# Altium footprint library alientek_sch_lib.PcbLib: 370 footprints (part 23 of 24)
Each footprint in its own frame and in the unit in brackets; x right, y up, seen from the top. Pads: shape width x height; smd on the part's side, far side on the other; paste and mask are expansions set on the pad; w line width, h text height; cw(c..) or ccw(c..) is an arc to the next point about the centre after c.
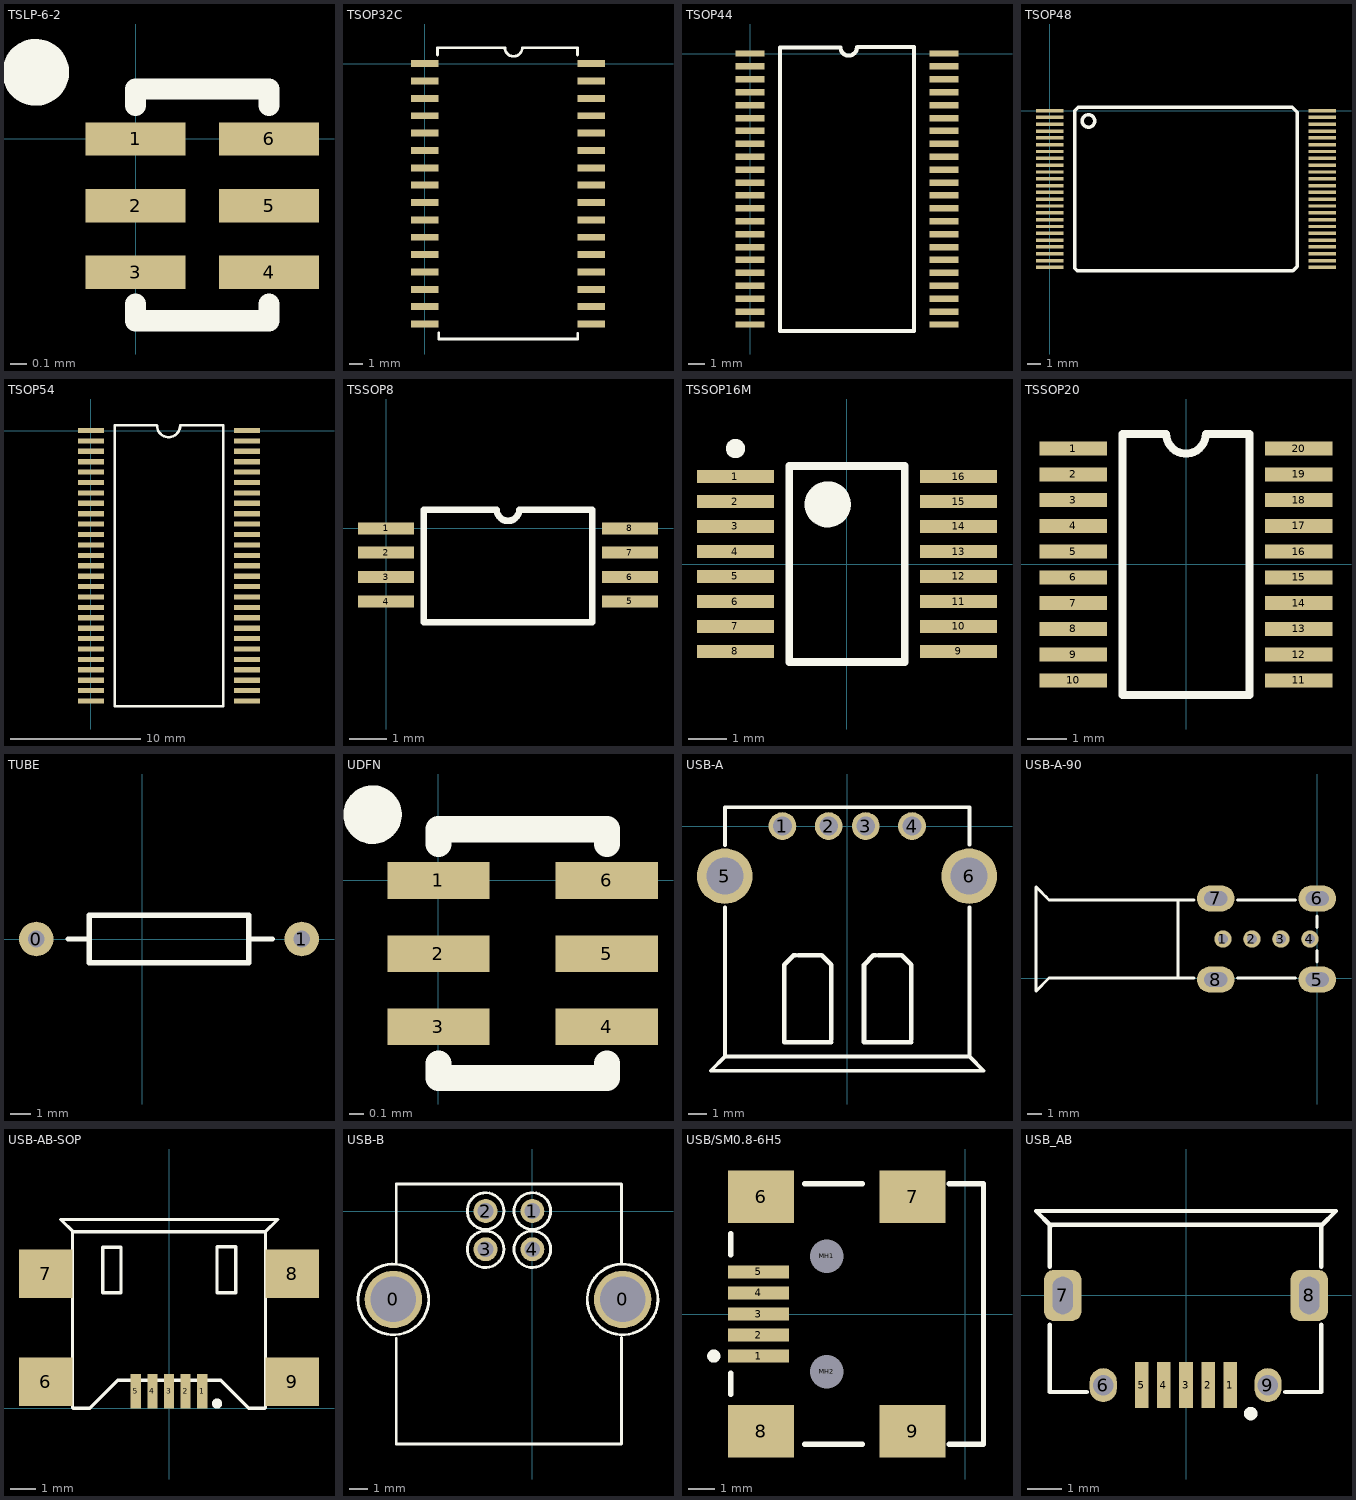
[diagram p22: the footprints below, top view; thin cyan lines are the x and y axes]

## TSLP-6-2 [mm] "1.4x0.7mm (max), Pitch 0.40mm,"
height 0.72
pads (6):
  rect 0.6x0.2 smd: 1(0,0) 2(0,-0.4) 3(0,-0.8) 4(0.8,-0.8) 5(0.8,-0.4) 6(0.8,0)
Top Overlay:
  circle w0.2: c-0.6,0.4 r0.1
  lines w0.127: 0,-0.99 0,-1.09 0.8,-1.09 0.8,-0.99 ; 0,0.2 0,0.3 0.8,0.3 0.8,0.2

## TSOP32C [mil]
height 47.24
pads (32):
  rect 80x20 smd: 1(0,0) 2(0,-50) 3(0,-100) 4(0,-150) 5(0,-200) 6(0,-250) 7(0,-300) 8(0,-350) 9(0,-400) 10(0,-450) 11(0,-500) 12(0,-550) 13(0,-600) 14(0,-650) 15(0,-700) 16(0,-750) 17(480,-750) 18(480,-700) 19(480,-650) 20(480,-600) 21(480,-550) 22(480,-500) 23(480,-450) 24(480,-400) 25(480,-350) 26(480,-300) 27(480,-250) 28(480,-200) 29(480,-150) 30(480,-100) 31(480,-50) 32(480,0)
Top Overlay:
  lines w7.87: 40.87,-776 40.87,-793 440.94,-793 440.94,-777.47 ; 231,46 ccw(c256,46) 281,46
  lines w8: 37,25 37,46 231,46 ; 281,46 440,46 440,25

## TSOP44 [mm]
pads (44):
  rect 1.8x0.4 smd: 1(-0.009,0.001) 2(-0.009,-0.799) 3(-0.009,-1.599) 4(-0.009,-2.399) 5(-0.009,-3.199) 6(-0.009,-3.999) 7(-0.009,-4.799) 8(-0.009,-5.599) 9(-0.009,-6.399) 10(-0.009,-7.199) 11(-0.009,-7.999) 12(-0.009,-8.799) 13(-0.009,-9.599) 14(-0.009,-10.399) 15(-0.009,-11.199) 16(-0.009,-11.999) 17(-0.009,-12.799) 18(-0.009,-13.599) 19(-0.009,-14.399) 20(-0.009,-15.199) 21(-0.009,-15.999) 22(-0.009,-16.799) 23(11.991,-16.799) 24(11.991,-15.999) 25(11.991,-15.199) 26(11.991,-14.399) 27(11.991,-13.599) 28(11.991,-12.799) 29(11.991,-11.999) 30(11.991,-11.199) 31(11.991,-10.399) 32(11.991,-9.599) 33(11.991,-8.799) 34(11.991,-7.999) 35(11.991,-7.199) 36(11.991,-6.399) 37(11.991,-5.599) 38(11.991,-4.799) 39(11.991,-3.999) 40(11.991,-3.199) 41(11.991,-2.399) 42(11.991,-1.599) 43(11.991,-0.799) 44(11.991,0.001)
Top Overlay:
  lines w0.2: 1.826,-17.199 10.156,-17.199
  lines w0.254: 6.604,0.381 cw(c6.096,0.381) 5.588,0.381 1.846,0.381 1.846,-17.18 1.826,-17.199 10.156,-17.199 ; 6.624,0.401 10.156,0.401 10.156,-17.199 ; 10.156,-17.199 10.156,-17.199

## TSOP48 [mm]
height 0.8
pads (48):
  rect 2x0.25 smd: 1(0,0) 2(0,-0.5) 3(0,-1) 4(0,-1.5) 5(0,-2) 6(0,-2.5) 7(0,-3) 8(0,-3.5) 9(0,-4) 10(0,-4.5) 11(0,-5) 12(0,-5.5) 13(0,-6) 14(0,-6.5) 15(0,-7) 16(0,-7.5) 17(0,-8) 18(0,-8.5) 19(0,-9) 20(0,-9.5) 21(0,-10) 22(0,-10.5) 23(0,-11) 24(0,-11.5) 25(20,-11.5) 26(20,-11) 27(20,-10.5) 28(20,-10) 29(20,-9.5) 30(20,-9) 31(20,-8.5) 32(20,-8) 33(20,-7.5) 34(20,-7) 35(20,-6.5) 36(20,-6) 37(20,-5.5) 38(20,-5) 39(20,-4.5) 40(20,-4) 41(20,-3.5) 42(20,-3) 43(20,-2.5) 44(20,-2) 45(20,-1.5) 46(20,-1) 47(20,-0.5) 48(20,0)
Top Overlay:
  circle w0.254: c2.844,-0.762 r0.458
  lines w0.254: 9.271,0.25 10.795,0.25 ; 9.652,0.25 2.085,0.25 1.835,0 1.835,-11.553 2.032,-11.75 17.845,-11.75 18.165,-11.43 18.165,-0.135 17.78,0.25 10.668,0.25

## TSOP54 [mm]
pads (54):
  rect 2x0.4 smd: 1(0,0) 2(0,-0.8) 3(0,-1.6) 4(0,-2.4) 5(0,-3.2) 6(0,-4) 7(0,-4.8) 8(0,-5.6) 9(0,-6.4) 10(0,-7.2) 11(0,-8) 12(0,-8.8) 13(0,-9.6) 14(0,-10.4) 15(0,-11.2) 16(0,-12) 17(0,-12.8) 18(0,-13.6) 19(0,-14.4) 20(0,-15.2) 21(0,-16) 22(0,-16.8) 23(0,-17.6) 24(0,-18.4) 25(0,-19.2) 26(0,-20) 27(0,-20.8) 28(12,-20.8) 29(12,-20) 30(12,-19.2) 31(12,-18.4) 32(12,-17.6) 33(12,-16.8) 34(12,-16) 35(12,-15.2) 36(12,-14.4) 37(12,-13.6) 38(12,-12.8) 39(12,-12) 40(12,-11.2) 41(12,-10.4) 42(12,-9.6) 43(12,-8.8) 44(12,-8) 45(12,-7.2) 46(12,-6.4) 47(12,-5.6) 48(12,-4.8) 49(12,-4) 50(12,-3.2) 51(12,-2.4) 52(12,-1.6) 53(12,-0.8) 54(12,0)
Top Overlay:
  lines w0.2: 5.061,0.4 1.835,0.4 1.835,-21.2 10.165,-21.2 10.165,0.4 6.877,0.4 ; 5.08,0.381 ccw(c5.969,0.381) 6.858,0.381

## TSSOP8 [mm] "Shrink Small Outline, MSOP; 8 Leads; Body Width 3 mm; Pitch 0.65 mm"
height 1.1
pads (8):
  rect 1.5x0.32 smd: 1(0,0) 2(0,-0.65) 3(0,-1.3) 4(0,-1.95) 5(6.5,-1.95) 6(6.5,-1.3) 7(6.5,-0.65) 8(6.5,0)
Top Overlay:
  lines w0.178: 1,0.5 1,-2.5 5.5,-2.5 5.5,0.5 3.55,0.5 cw(c3.25,0.5) 2.95,0.5 1.05,0.5

## TSSOP16M [mm] "TSOP, 16-Leads, Body 5x4.4mm, Pitch 0.65mm, IPC Low Density"
height 1.1
pads (16):
  rect 2x0.35 smd: 1(-2.9,2.275) 2(-2.9,1.625) 3(-2.9,0.975) 4(-2.9,0.325) 5(-2.9,-0.325) 6(-2.9,-0.975) 7(-2.9,-1.625) 8(-2.9,-2.275) 9(2.9,-2.275) 10(2.9,-1.625) 11(2.9,-0.975) 12(2.9,-0.325) 13(2.9,0.325) 14(2.9,0.975) 15(2.9,1.625) 16(2.9,2.275)
Top Overlay:
  circle w0.25: c-2.9,3 r0.125
  circle w0.6: c-0.5,1.55 r0.3
  lines w0.2: -1.5,-2.55 -1.5,2.55 1.5,2.55 1.5,-2.55 -1.5,-2.55

## TSSOP20 [mm] "TSOP, 20-Leads, Body 6.6x4.5mm (max), Pitch 0.65mm, IPC Medium Density"
height 1.2
pads (20):
  rect 1.7x0.35 smd: 1(-2.85,2.925) 2(-2.85,2.275) 3(-2.85,1.625) 4(-2.85,0.975) 5(-2.85,0.325) 6(-2.85,-0.325) 7(-2.85,-0.975) 8(-2.85,-1.625) 9(-2.85,-2.275) 10(-2.85,-2.925) 11(2.85,-2.925) 12(2.85,-2.275) 13(2.85,-1.625) 14(2.85,-0.975) 15(2.85,-0.325) 16(2.85,0.325) 17(2.85,0.975) 18(2.85,1.625) 19(2.85,2.275) 20(2.85,2.925)
Top Overlay:
  lines w0.2: -1.6,-3.3 -1.6,3.3 -0.5,3.3 ccw(c0,3.3) 0.5,3.3 1.6,3.3 1.6,-3.3 -1.6,-3.3

## TUBE [mil] "YTUBE"
height 78.74
pads (2):
  round 65 hole 31.5: 0(-200,0) 1(300,0)
Top Overlay:
  lines w10: -140,0 -100,0 ; 200,0 245,0 ; -100,-45 -100,45 200,45 200,-45 -100,-45

## UDFN [mm] "QFN, 6-Leads, Body 1.5x1.0mm (max), Pitch 0.50mm, IPC Medium Density"
height 0.72
pads (6):
  rect 0.7x0.25 smd: 1(0,0) 2(0,-0.5) 3(0,-1) 4(1.15,-1) 5(1.15,-0.5) 6(1.15,0)
Top Overlay:
  circle w0.2: c-0.45,0.45 r0.1
  lines w0.178: 0,-1.25 0,-1.35 1.15,-1.35 1.15,-1.25 ; 0,0.25 0,0.35 1.15,0.35 1.15,0.25

## USB-A [mm]
pads (6):
  round 1.5 hole 1.016: 1(-3.5,0) 2(-1,0) 3(1,0) 4(3.5,0)
  round 3 hole 2: 5(-6.61,-2.7) 6(6.59,-2.7)
Top Overlay:
  lines w0.203: -6.604,-4.38 -6.604,-12.446 ; -6.604,-1.03 -6.604,1.016 6.604,1.016 6.604,-1 ; 6.604,-4.4 6.604,-12.446 ; -6.604,-12.446 -7.366,-13.208 7.366,-13.208 6.604,-12.446 ; -6.604,-12.446 6.604,-12.446
  lines w0.254: -2.771,-6.971 -2.898,-6.971 -3.406,-7.479 -3.406,-11.67 -0.866,-11.67 ; -2.644,-6.971 -1.374,-6.971 -0.866,-7.479 -0.866,-11.543 ; 1.547,-6.971 1.42,-6.971 0.912,-7.479 0.912,-11.67 3.452,-11.67 ; 1.674,-6.971 2.944,-6.971 3.452,-7.479 3.452,-11.543

## USB-A-90 [mm]
pads (8):
  round 1.2 hole 0.7: 1(-6.5,2.7) 2(-4.5,2.7) 3(-2.5,2.7) 4(-0.5,2.7)
  oval 2.6x1.8 hole 1 slot 1.6 at 0 deg: 5(0,-0.1) 6(0,5.5) 7(-7,5.5) 8(-7,-0.1)
Top Overlay:
  lines w0.203: -18.75,5.65 -18.5,5.4 ; -17.2,0 -8.5,0 ; -16.8,0 -18.5,0 -19.4,-0.9 -19.4,6.3 -18.5,5.4 ; -15.6,5.4 -18.5,5.4 ; -9.6,0 -9.6,5.4 ; -8.5,5.4 -18.5,5.4 ; -5.5,0 -1.5,0 ; -5.5,5.4 -1.5,5.4 ; 0,1.1 0,1.9 ; 0,3.5 0,4.3

## USB-AB-SOP [mm] "Micro USB SOP"
height 3
pads (9):
  rect 0.4x1.35 smd: 1(1.3,0.66) 2(0.65,0.66) 3(0,0.66) 4(-0.65,0.66) 5(-1.3,0.66)
  rect 2.1x1.9 smd: 6(-4.826,1.041) 7(-4.826,5.258) 8(4.826,5.258) 9(4.826,1.041)
Top Overlay:
  circle w0.2: c1.881,0.178 r0.1
  lines w0.127: -3.759,6.909 -4.242,7.391 4.267,7.391 3.759,6.883 ; -3.785,0.025 -3.785,6.909 3.785,6.909 3.785,0.025 3.759,0 3.124,0 2.032,1.092 -2.007,1.092 -3.099,0 -3.124,0 -3.759,0 -3.785,0.025 ; -2.591,4.521 -1.88,4.521 -1.88,6.299 -2.591,6.299 -2.591,4.521 ; 1.88,4.521 1.88,6.325 2.616,6.325 2.616,4.521 1.88,4.521

## USB-B [mil]
pads (6):
  round 120 hole 95: 0(-291,-185) 0(189,-185)
  round 50 hole 33: 1(0,0) 2(-98,0) 3(-98,-80) 4(0,-80)
Top Overlay:
  circle w6: c-98,0 r38.3
  circle w6: c-98,-80 r38.3
  circle w6: c0,0 r38.3
  circle w6: c0,-80 r38.3
  lines w6: -365.04,-185 ccw(c-291,-185) -365,-182.5 ; -285,-266.5 -285,-488 187,-488 187,-264.5 ; -285,-108.5 -285,57 187,57 187,-110.5 ; 114.96,-185 ccw(c189,-185) 115,-182.5

## USB/SM0.8-6H5 [mm]
height 1
pads (11):
  rect 2.3x0.5 smd: 1(-7.85,-1.6) 2(-7.85,-0.8) 3(-7.85,0) 4(-7.85,0.8) 5(-7.85,1.6)
  rect 2.5x2 smd: 6(-7.75,4.45) 7(-1.996,4.45) 8(-7.75,-4.45) 9(-1.996,-4.45)
  round 0.6 hole 1.27 unplated: MH1(-5.25,2.2) MH2(-5.25,-2.2)
Top Overlay:
  circle w0.25: c-9.55,-1.6 r0.125
  lines w0.2: -8.9,-3.05 -8.9,-2.25 ; -8.9,2.25 -8.9,3.05 ; -6.1,-4.95 -3.9,-4.95 ; -6.1,4.95 -3.9,4.95 ; -0.6,-4.95 0.7,-4.95 0.7,4.95 -0.6,4.95

## USB_AB [mm] "Micro usb座 5pin"
height 3
pads (9):
  rect 0.4x1.35 smd: 1(1.3,-2.642) 2(0.65,-2.642) 3(0,-2.642) 4(-0.65,-2.642) 5(-1.3,-2.642)
  oval 0.8x1 hole 0.6: 6(-2.438,-2.642) 9(2.413,-2.642)
  rrect50% 1.1x1.5 hole 0.6 slot 1.1 at 90 deg: 7(-3.632,0) 8(3.632,0)
Top Overlay:
  circle w0.2: c1.907,-3.48 r0.1
  lines w0.127: -4.013,-0.864 -4.013,-2.845 -2.921,-2.845 ; -4.013,0.851 -4.013,2.083 -2.438,2.083 ; -3.988,2.057 -4.42,2.489 4.42,2.489 3.988,2.057 ; -3.988,2.083 3.988,2.083 3.988,0.851 ; 2.921,-2.845 3.988,-2.845 3.988,-0.864